# EAGLE library part ZS-042 (library gate433)
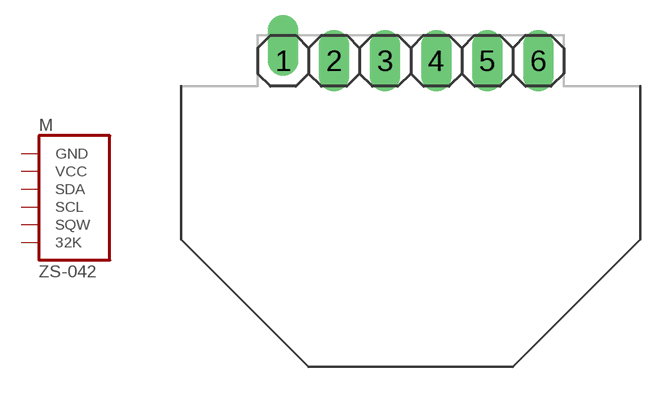
[diagram p4: symbol with the pads of ZS-042; footprint ZS-042]

Designator prefix M

## ZS-042  [ZS-042]
1  GND  pas
2  VCC  pas
3  SDA  pas
4  SCL  pas
5  SQW  pas
6  32K  pas

## Footprint ZS-042 (pad centres in mm)
drill 1.016 offset: 1 -6.35,0
drill 1.016 long: 2 -3.81,0; 3 -1.27,0; 4 1.27,0; 5 3.81,0; 6 6.35,0